# Altium footprint library MSOP16.PcbLib: 1 footprints
Each footprint in its own frame and in the unit in brackets; x right, y up, seen from the top. Pads: shape width x height; smd on the part's side, far side on the other; paste and mask are expansions set on the pad; w line width, h text height; cw(c..) or ccw(c..) is an arc to the next point about the centre after c.
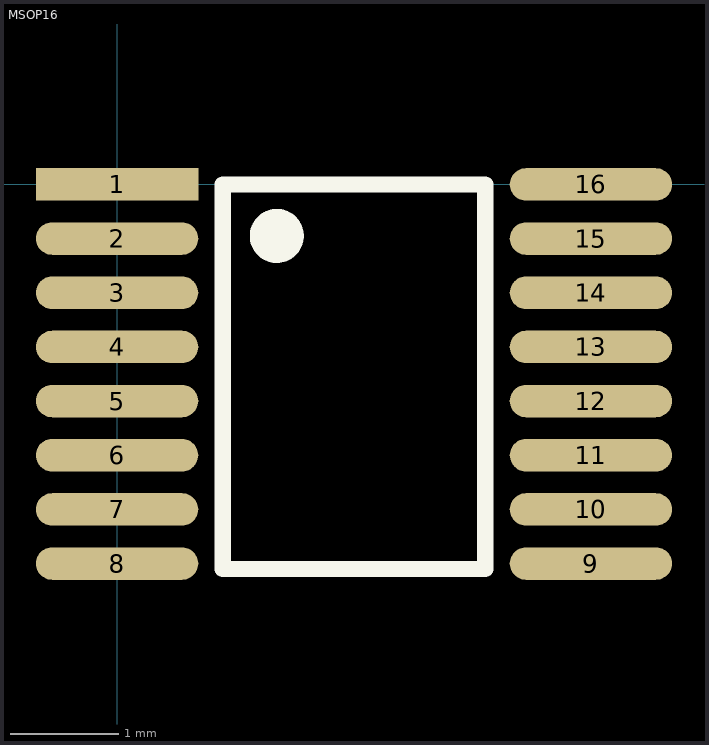
[diagram p0: the footprint, top view; thin cyan lines are the x and y axes]

## MSOP16 [mm]
pads (16):
  rect 1.5x0.3 smd: 1(0,0)
  oval 1.5x0.3 smd: 2(0,-0.5) 3(0,-1) 4(0,-1.5) 5(0,-2) 6(0,-2.5) 7(0,-3) 8(0,-3.5) 9(4.375,-3.5) 10(4.375,-3) 11(4.375,-2.5) 12(4.375,-2) 13(4.375,-1.5) 14(4.375,-1) 15(4.375,-0.5) 16(4.375,0)
Top Overlay:
  circle w0.25: c1.475,-0.475 r0.125
  lines w0.15: 0.975,-3.55 3.4,-3.55 3.4,0 0.975,0 0.975,-3.55
3D body "User Library-MSOP-16.step": height 0.86, standoff 0, extent -0.3,-3.764 4.6,0.275